# Altium schematic symbol library Tantalum Capacitor.SchLib: 1 symbol
Pins are listed as number, name and electrical type; pins without a type are passive.

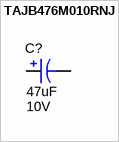
[diagram p0: symbol TAJB476M010RNJ]

## TAJB476M010RNJ
designator C?, comment Max voltage: 10V  (hidden comment: 47uF)
Electrolytic; Global part number: TAJB476M010RNJ; Manufacturer: AVX; Tolerance_%: 20; Mount type: SMT; Size: 1210; Value: 47uF
footprint CASE-B_3528
pins: 1 +, 2 -